# Altium integrated library 06035J0R3PBSTR.IntLib: 2 symbols
Pins are listed as number, name and electrical type; pins without a type are passive.

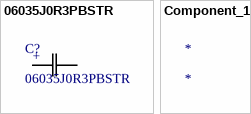
[diagram p0: symbols 06035J0R3PBSTR to Component_1]

## 06035J0R3PBSTR
designator C?
No Description Available; Mfr_Name: KYOCERA AVX; Type: DEV; Copyright: Copyright (C) 2022 Ultra Librarian. All rights reserved.; Manufacturer_Part_Number: 06035J0R3PBSTR; RefDes: RefDes
footprint CAP_0603_AVX
pins: 1, 2
text: +

## Component_1
designator *